# EAGLE library part QFN12 (library yapo)
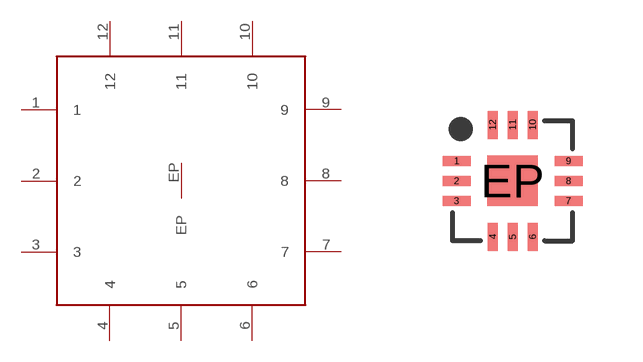
[diagram p57: symbol with the pads of QFN12-3X3; footprint QFN12-3X3]

Designator prefix -

## QFN12  [QFN12-3X3]
1  1
2  2
3  3
4  4
5  5
6  6
7  7
8  8
9  9
10  10
11  11
12  12
EP  EP

## Footprint QFN12-3X3 (pad centres in mm)
smd 0.7 x 0.25: 1 -1.4,0.5; 2 -1.4,0; 3 -1.4,-0.5; 7 1.4,-0.5; 8 1.4,0; 9 1.4,0.5
smd 0.25 x 0.7: 4 -0.5,-1.4; 5 0,-1.4; 6 0.5,-1.4; 10 0.5,1.4; 11 0,1.4; 12 -0.5,1.4
smd 1.27 x 1.27: EP 0,0